# Altium schematic symbol library project.SchLib: 27 symbols
Pins are listed as number, name and electrical type; pins without a type are passive.

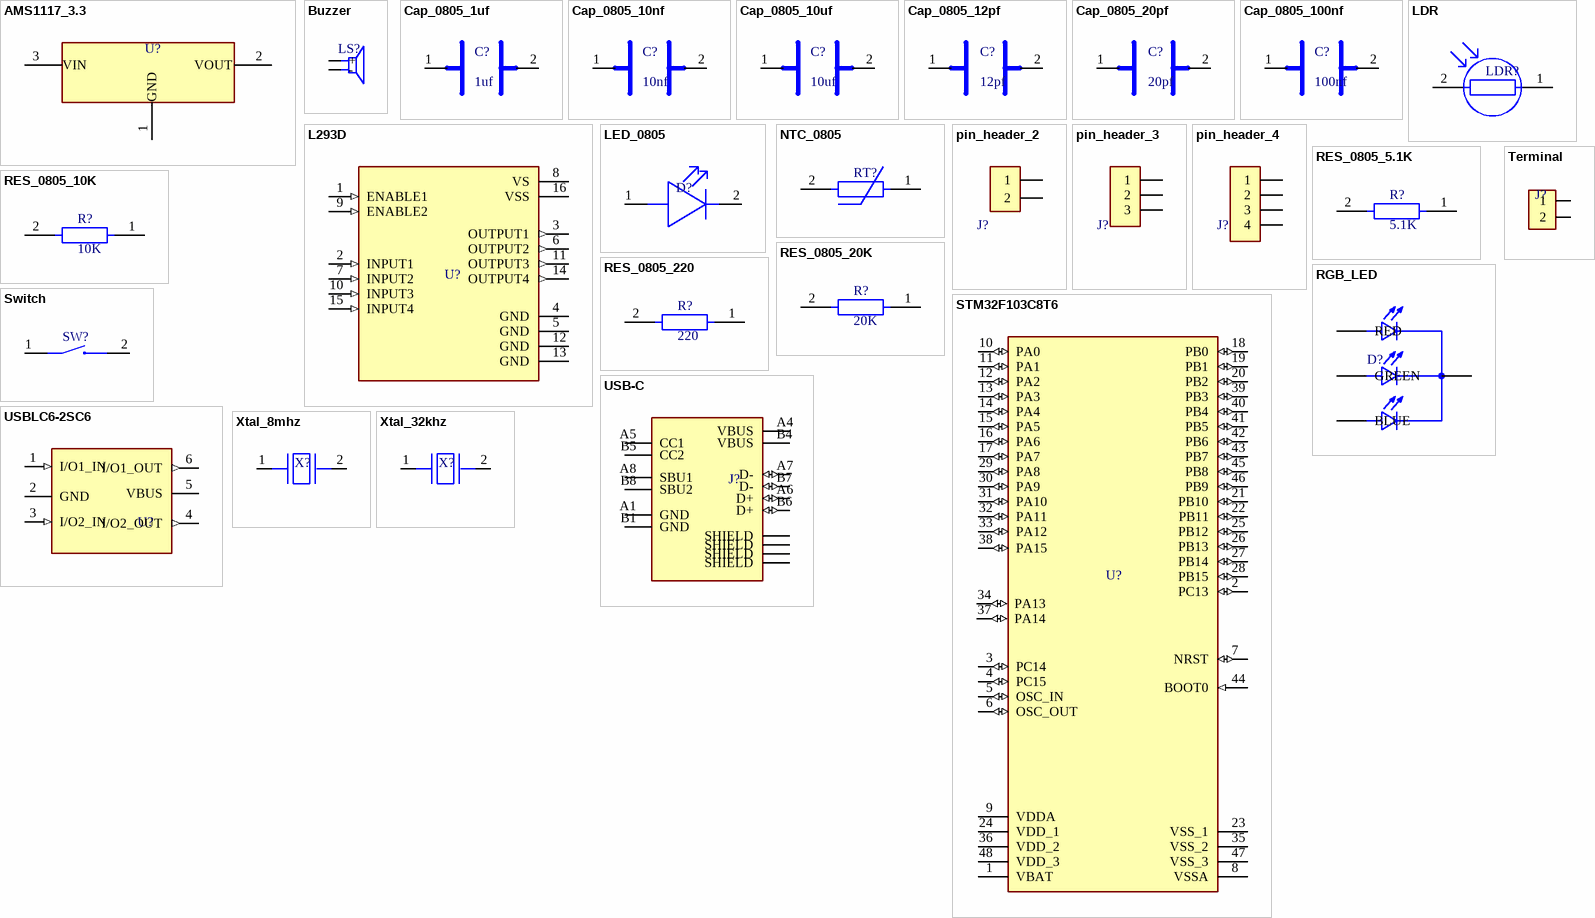
[diagram p0: symbols AMS1117_3.3 to Xtal_32khz]

## AMS1117_3.3
designator U?
1A Low Dropout (LDO) Regulator; MFR: Advanced Monolithic Systems; MFR PART#: AMS1117-3.3; Supplier: LCSC; Supplier PART#: C6186; ComponentLink1Description: Data Sheet; ComponentLink1URL: https://www.lcsc.com/datasheet/C6186.pdf?spm=wm.sxq.inf.ggs&lcsc_vid=RAIMXwZeRgRXUFAAT1RZBAEFEVIIVgdSQFlfUgUDFQcxVlNeQVRaVlRTQ1NcVTsOAxUeFF5JWBYZEEoBGA4JCwFIFA4DSA%3D%3D
footprint AMS1117 (SOT223, 4-Leads, Body 6.51x7.00mm (avg), Pitch 2.30mm, IPC Medium Density)
pins: 1 GND, 2 VOUT, 3 VIN

## Buzzer
designator LS?
Active Buzzer (Built-in Driving Circuit) 2.3kHz 5V Electromagnetic Alarms, Buzzers, and Sirens; MFR: CUI; MFR PART#: CMI-1295-0585T; Supplier: LCSC; Supplier PART#: C22359712; ComponentLink1Description: Data Sheet; ComponentLink1URL: https://www.lcsc.com/datasheet/C22359712.pdf?spm=wm.sxq.inf.ggs___wm.fly.bg.0.xh&lcsc_vid=FgVdAVJeFgAKAVAAT1ldBVYDR1ZcX11XR1lZVl1WEQMxVlNeT1dcVFdfRVdcVzsOAxUeFF5JWBYZEEoKFBINSQcJGk4NBhADEA4cHktTRk8GEwkK
footprint Buzzer
pins: 1 +, 2 -

## Cap_0805_1uf
designator C?, comment 1uf
CAP CER 1uF 50V X7R 0805; MFR: Samsung Electro-Mechanics; MFR PART#: CL21B105KBFNNNE; Supplier: LCSC; Supplier PART#: C28323; ComponentLink1Description: Data Sheet; ComponentLink1URL: https://www.lcsc.com/datasheet/C15850.pdf?spm=wm.sxq.inf.ggs___wm.fly.bg.0.xh&lcsc_vid=RAIMXwZeRgRXUFAAT1RZBAEFEVIIVgdSQFlfUgUDFQcxVlNeQVVYX1FWR1FeVDsOAxUeFF5JWBYZEEoKFBINSQcJGk4eFQsCAgIaSgADAwAHC0slT1VdUFJIHxUDCw%3D%3D
footprint Cap_0805
pins: 1, 2

## Cap_0805_10nf
designator C?, comment 10nf
CAP CER 10nF 50V X7R 0805; MFR: Samsung Electro-Mechanics; MFR PART#: CL21B103KBANNNC; Supplier: LCSC; Supplier PART#: C1710; ComponentLink1Description: Data Sheet; ComponentLink1URL: https://www.lcsc.com/datasheet/C1710.pdf?spm=wm.sxq.inf.ggs___wm.ssy.bg.3.xh&lcsc_vid=RAIMXwZeRgRXUFAAT1RZBAEFEVIIVgdSQFlfUgUDFQcxVlNeQFJfX1VQRFlaXjsOAxUeFF5JWBYZEEoKFBINSQcJGk4dAgUUFAk%3D
footprint Cap_0805
pins: 1, 2

## Cap_0805_10uf
designator C?, comment 10uf
CAP CER 10uF 25V X5R 0805; MFR: Samsung Electro-Mechanics; MFR PART#: CL21A106KAYNNNE; Supplier: LCSC; Supplier PART#: C15850; ComponentLink1Description: Data Sheet; ComponentLink1URL: https://www.lcsc.com/datasheet/C15850.pdf?spm=wm.sxq.inf.ggs___wm.fly.bg.0.xh&lcsc_vid=RAIMXwZeRgRXUFAAT1RZBAEFEVIIVgdSQFlfUgUDFQcxVlNeQVVYX1FWR1FeVDsOAxUeFF5JWBYZEEoKFBINSQcJGk4eFQsCAgIaSgADAwAHC0slT1VdUFJIHxUDCw%3D%3D
footprint Cap_0805
pins: 1, 2

## Cap_0805_12pf
designator C?, comment 12pf
CAP CER 12pF 50V C0G 0805; MFR: Samsung Electro-Mechanics; MFR PART#: CL21C120JBANNNC; Supplier: LCSC; Supplier PART#: C170110; ComponentLink1Description: Data Sheet; ComponentLink1URL: https://www.lcsc.com/datasheet/C170110.pdf?spm=wm.sxq.inf.ggs___wm.fly.bg.0.xh&lcsc_vid=RAIMXwZeRgRXUFAAT1RZBAEFEVIIVgdSQFlfUgUDFQcxVlNeQFJfX1BXQVdcVzsOAxUeFF5JWBYZEEoKFBINSQcJGk4dAgUUFAk%3D
footprint Cap_0805
pins: 1, 2

## Cap_0805_20pf
designator C?, comment 20pf
CAP CER 20pF 50V C0G 0805; MFR: Samsung Electro-Mechanics; MFR PART#: CL21C200JBANNNC; Supplier: LCSC; Supplier PART#: C1798; ComponentLink1Description: Data Sheet; ComponentLink1URL: https://www.lcsc.com/datasheet/C1798.pdf?spm=wm.sxq.inf.ggs___wm.ssy.bg.11.xh&lcsc_vid=RAIMXwZeRgRXUFAAT1RZBAEFEVIIVgdSQFlfUgUDFQcxVlNeQFJfX1ZeR1FXVjsOAxUeFF5JWBYZEEoKFBINSQcJGk4dAgUUFAk%3D
footprint Cap_0805
pins: 1, 2

## Cap_0805_100nf
designator C?, comment 100nf
CAP CER 100nF 50V X7R 0805; MFR: Samsung Electro-Mechanics; MFR PART#: CL21B104KBCNNNC; Supplier: LCSC; Supplier PART#: C1711; ComponentLink1Description: Data Sheet; ComponentLink1URL: https://www.lcsc.com/datasheet/C15850.pdf?spm=wm.sxq.inf.ggs___wm.fly.bg.0.xh&lcsc_vid=RAIMXwZeRgRXUFAAT1RZBAEFEVIIVgdSQFlfUgUDFQcxVlNeQVVYX1FWR1FeVDsOAxUeFF5JWBYZEEoKFBINSQcJGk4eFQsCAgIaSgADAwAHC0slT1VdUFJIHxUDCw%3D%3D
footprint Cap_0805
pins: 1, 2

## L293D
designator U?
PUSH-PULL FOUR CHANNEL DRIVER WITH DIODES; MFR: ST; MFR PART#: L293D; Supplier: LCSC; Supplier PART#: C12340; ComponentLink1Description: Data Sheet; ComponentLink1URL: https://www.lcsc.com/datasheet/C12340.pdf?spm=wm.sxq.inf.ggs___wm.ssy.bg.0.xh&lcsc_vid=FgVdAVJeFgAKAVAAT1ldBVYDR1ZcX11XR1lZVl1WEQMxVlNeT1dcUlJXR1hbUjsOAxUeFF5JWBYZEEoKFBINSQcJGk4dAgUUFAk%3D
footprint L293D
pins: 1 ENABLE1 (in), 2 INPUT1 (in), 3 OUTPUT1 (out), 4 GND (power), 5 GND (power), 6 OUTPUT2 (out), 7 INPUT2 (in), 8 VS (power), 9 ENABLE2 (in), 10 INPUT3 (in), 11 OUTPUT3 (out), 12 GND (power), 13 GND (power), 14 OUTPUT4 (out), 15 INPUT4 (in), 16 VSS (power)

## LDR
designator LDR?
Photoconductive Cell; MFR: JCHL; MFR PART#: GT36516; Supplier: LCSC; Supplier PART#: C2904880; ComponentLink1Description: Data Sheet; ComponentLink1URL: https://www.lcsc.com/datasheet/C2904880.pdf?spm=wm.sxq.inf.ggs___wm.fly.bg.2.xh&lcsc_vid=FgVdAVJeFgAKAVAAT1ldBVYDR1ZcX11XR1lZVl1WEQMxVlNeT1JZUVBXRVZXUTsOAxUeFF5JWBYZEEoKFBINSQcJGk4dAgUUFAk%3D
footprint LDR
pins: 1, 2

## LED_0805
designator D?
LED RED 0805 SMD; MFR: YONGYUTAI; MFR PART#: YLED0805R; Supplier: LCSC; Supplier PART#: C19171391; ComponentLink1Description: Data Sheet; ComponentLink1URL: https://www.lcsc.com/datasheet/C19171391.pdf?spm=wm.sxq.inf.ggs___wm.fly.bg.0.xh&lcsc_vid=RAIMXwZeRgRXUFAAT1RZBAEFEVIIVgdSQFlfUgUDFQcxVlNeQVRaUlRVRlZcXjsOAxUeFF5JWBYZEEoKFBINSQcJGk4NBhADEA4cHktXRlhXSQwSGg0%3D
footprint LED_0805
pins: 1, 2

## NTC_0805
designator RT?
THERMISTOR NTC 10kΩ 0805; MFR: VISHAY; MFR PART#: NTCS0805E3103JHT; Supplier: LCSC; Supplier PART#: C511025; ComponentLink1Description: Data Sheet; ComponentLink1URL: https://www.lcsc.com/datasheet/C511025.pdf?spm=wm.sxq.inf.ggs___wm.fly.bg.9.xh&lcsc_vid=FgVdAVJeFgAKAVAAT1ldBVYDR1ZcX11XR1lZVl1WEQMxVlNeT1JZVVFeRldaXzsOAxUeFF5JWBYZEEoKFBINSQcJGk4NBhADEA4cHktXRVZcSQwSGg0%3D
footprint NTC_0805
pins: 1, 2

## pin_header_2
designator J?
1kV 1 2.54mm Pin Header 3A 2.5mm Through Hole 6mm 3P -40℃~+105℃ 3mm Gold 1x2P Through Hole,P=2.54mm Headers, Male Pins; MFR: hanxia; MFR PART#: HX PH254-01-03-Z-L11.5 pcb pin header; Supplier: LCSC; Supplier PART#: C52016391; ComponentLink1Description: Data Sheet; ComponentLink1URL: https://www.lcsc.com/datasheet/C52016391.pdf?spm=wm.sxq.inf.ggs___wm.fly.bg.1.xh&lcsc_vid=RAIMXwZeRgRXUFAAT1RZBAEFEVIIVgdSQFlfUgUDFQcxVlNeQFJcUFdRQlZdUDsOAxUeFF5JWBYZEEoKFBINSQcJGk4NBhADEA4cHktXT1BADxALGw%3D%3D
footprint pin_header_2
pins: 1, 2

## pin_header_3
designator J?
1kV 1 2.54mm Pin Header 3A 2.5mm Through Hole 6mm 3P -40℃~+105℃ 3mm Gold 1x3P Through Hole,P=2.54mm Headers, Male Pins; MFR: hanxia; MFR PART#: HX PH254-01-03-Z-L11.5 pcb pin header; Supplier: LCSC; Supplier PART#: C52016391; ComponentLink1Description: Data Sheet; ComponentLink1URL: https://www.lcsc.com/datasheet/C52016391.pdf?spm=wm.sxq.inf.ggs___wm.fly.bg.1.xh&lcsc_vid=RAIMXwZeRgRXUFAAT1RZBAEFEVIIVgdSQFlfUgUDFQcxVlNeQFJcUFdRQlZdUDsOAxUeFF5JWBYZEEoKFBINSQcJGk4NBhADEA4cHktXT1BADxALGw%3D%3D
footprint pin_header_3
pins: 1, 2, 3

## pin_header_4
designator J?
1kV 1 2.54mm Pin Header 3A 2.5mm Through Hole 6mm -40℃~+105℃ 3mm Gold 4P 1x4P Through Hole,P=2.54mm Headers, Male Pins; MFR: hanxia; MFR PART#: HX PH254-01-04-Z-L11.5 straight pin header; Supplier: LCSC; Supplier PART#: C52016392; ComponentLink1Description: Data Sheet; ComponentLink1URL: https://www.lcsc.com/datasheet/C52016392.pdf?spm=wm.sxq.inf.ggs___wm.fly.bg.0.xh&lcsc_vid=RAIMXwZeRgRXUFAAT1RZBAEFEVIIVgdSQFlfUgUDFQcxVlNeQFJfXlVTRVBWXzsOAxUeFF5JWBYZEEoKFBINSQcJGk4NBhADEA4cHktRTlNADxALGw%3D%3D
footprint pin_header_4
pins: 1, 2, 3, 4

## RES_0805_5.1K
designator R?, comment 5.1K
RES 5.1kΩ ±1% 125mW 0805; MFR: YAGEO; MFR PART#: RC0805FR-075K1L; Supplier: LCSC; Supplier PART#: C84375; ComponentLink1Description: Data Sheet; ComponentLink1URL: https://www.lcsc.com/datasheet/C84375.pdf?spm=wm.sxq.inf.ggs___wm.fly.bg.2.xh&lcsc_vid=RAIMXwZeRgRXUFAAT1RZBAEFEVIIVgdSQFlfUgUDFQcxVlNeQFJfX1xTQ1RYXjsOAxUeFF5JWBYZEEoKFBINSQcJGk4dAgUUFAk%3D
footprint RES_0805
pins: 1, 2

## RES_0805_10K
designator R?, comment 10K
RES 10kΩ ±0.1% 125mW 0805; MFR: YAGEO; MFR PART#: RT0805BRD0710KL; Supplier: LCSC; Supplier PART#: C110775; ComponentLink1Description: Data Sheet; ComponentLink1URL: https://www.lcsc.com/datasheet/C95781.pdf?spm=wm.sxq.inf.ggs___wm.fly.bg.2.xh&lcsc_vid=RAIMXwZeRgRXUFAAT1RZBAEFEVIIVgdSQFlfUgUDFQcxVlNeQVRaVlNURlFeXzsOAxUeFF5JWBYZEEoKFBINSQcJGk4eFQsCAgIaSgADAwAHC0sFHwgeShYDBAgdEwsUWhIbFQIHFARDCgsTGRUxEQtLR1leUklTWlAFOCdUT1lXUlZVWQkaCgg%3D
footprint RES_0805
pins: 1, 2

## RES_0805_20K
designator R?, comment 20K
RES 20kΩ ±1% 125mW 0805; MFR: YAGEO; MFR PART#: RC0805FR-0720KL; Supplier: LCSC; Supplier PART#: C114566; ComponentLink1Description: Data Sheet; ComponentLink1URL: https://www.lcsc.com/datasheet/C114566.pdf?spm=wm.sxq.inf.ggs___wm.fly.bg.2.xh&lcsc_vid=FgVdAVJeFgAKAVAAT1ldBVYDR1ZcX11XR1lZVl1WEQMxVlNeT1dXUlJURFJfUjsOAxUeFF5JWBYZEEoKFBINSQcJGk4dAgUUFAk%3D
footprint RES_0805
pins: 1, 2

## RES_0805_220
designator R?, comment 220
RES 220Ω ±0.1% 125mW 0805; MFR: YAGEO; MFR PART#: RT0805BRD07220RL; Supplier: LCSC; Supplier PART#: C865304; ComponentLink1Description: Data Sheet; ComponentLink1URL: https://www.lcsc.com/datasheet/C865304.pdf?spm=wm.sxq.inf.ggs___wm.fly.bg.8.xh&lcsc_vid=RAIMXwZeRgRXUFAAT1RZBAEFEVIIVgdSQFlfUgUDFQcxVlNeQFJfUlFQQ1NaVzsOAxUeFF5JWBYZEEoKFBINSQcJGk4NBhADEA4cHktfQ1hADxALGw%3D%3D
footprint RES_0805
pins: 1, 2

## RGB_LED
designator D?
TriColor ChipLED; MFR: Broadcom; MFR PART#: HSMF-C118; Supplier: LCSC; Supplier PART#: C6795867; ComponentLink1Description: Data Sheet; ComponentLink1URL: https://www.lcsc.com/datasheet/C6795867.pdf?spm=wm.sxq.inf.ggs___wm.fly.bg.1.xh&lcsc_vid=FgVdAVJeFgAKAVAAT1ldBVYDR1ZcX11XR1lZVl1WEQMxVlNeT1dcXlZURlZaVjsOAxUeFF5JWBYZEEoKFBINSQcJGk4NBhADEA4cHktSRlFADxALGw%3D%3D
footprint RGB_LED
pins: 1 GND, 2 RED, 3 GREEN, 4 BLUE

## STM32F103C8T6
designator U?
Medium-density performance line Arm-based 32-bit MCU with 64 or 128 KB Flash, USB, CAN, 7 timers, 2 ADCs, 9 com. interfaces; MFR: ST; MFR PART#: STM32F103C8T6; Supplier: LCSC; Supplier PART#: C8734; ComponentLink1Description: Data Sheet; ComponentLink1URL: https://www.lcsc.com/datasheet/C8734.pdf?spm=wm.sxq.inf.ggs___wm.ssy.em.0.tz&lcsc_vid=RAIMXwZeRgRXUFAAT1RZBAEFEVIIVgdSQFlfUgUDFQcxVlNeQFJcU1RRRFJcVTsOAxUeFF5JWBYZEEoKFBINSQcJGk4NBhADEA4cHktTQlhADxALGw%3D%3D
footprint STM32F103C8T6
pins: 1 VBAT (power), 2 PC13 (io), 3 PC14 (io), 4 PC15 (io), 5 OSC_IN (io), 6 OSC_OUT (io), 7 NRST (io), 8 VSSA (power), 9 VDDA (power), 10 PA0 (io), 11 PA1 (io), 12 PA2 (io), 13 PA3 (io), 14 PA4 (io), 15 PA5 (io), 16 PA6 (io), 17 PA7 (io), 18 PB0 (io), 19 PB1 (io), 20 PB2 (io), 21 PB10 (io), 22 PB11 (io), 23 VSS_1 (power), 24 VDD_1 (power), 25 PB12 (io), 26 PB13 (io), 27 PB14 (io), 28 PB15 (io), 29 PA8 (io), 30 PA9 (io), 31 PA10 (io), 32 PA11 (io), 33 PA12 (io), 34 PA13 (io), 35 VSS_2 (power), 36 VDD_2 (power), 37 PA14 (io), 38 PA15 (io), 39 PB3 (io), 40 PB4 (io), 41 PB5 (io), 42 PB6 (io), 43 PB7 (io), 44 BOOT0 (in), 45 PB8 (io), 46 PB9 (io), 47 VSS_3 (power), 48 VDD_3 (power)

## Switch
designator SW?
SWITCH TACTILE SPST SMD; MFR: SHOU HAN; MFR PART#: TS342A2P-WZ; Supplier: LCSC; Supplier PART#: C557591; ComponentLink1Description: Data Sheet; ComponentLink1URL: https://www.lcsc.com/datasheet/C557591.pdf?spm=wm.sxq.inf.ggs___wm.fly.bg.15.xh&lcsc_vid=RAIMXwZeRgRXUFAAT1RZBAEFEVIIVgdSQFlfUgUDFQcxVlNeQFJfXlFWRFdeVTsOAxUeFF5JWBYZEEoKFBINSQcJGk4NBhADEA4cHktQQlFADxALGw%3D%3D
footprint switch
pins: 1, 2

## Terminal
designator J?
TERM BLK 2POS 5.08mm TH; MFR: KANGNEX; MFR PART#: WJ500V-5.08-2P; Supplier: LCSC; Supplier PART#: C8465; ComponentLink1Description: Data Sheet; ComponentLink1URL: https://www.lcsc.com/datasheet/C8465.pdf?spm=wm.sxq.inf.ggs___wm.fly.bg.1.xh&lcsc_vid=RAIMXwZeRgRXUFAAT1RZBAEFEVIIVgdSQFlfUgUDFQcxVlNeQVRaUFdVR1VbVTsOAxUeFF5JWBYZEEoKFBINSQcJGk4dAgUUFAk%3D
footprint Terminal
pins: 1, 2

## USB-C
designator J?
CONN RCPT Type-C 16POS SMD; MFR: Korean Hroparts Elec; MFR PART#: TYPE-C-31-M-12; Supplier: LCSC; Supplier PART#: C165948; ComponentLink1Description: Data Sheet; ComponentLink1URL: https://www.lcsc.com/datasheet/C165948.pdf?spm=wm.sxq.inf.ggs___wm.fly.bg.1.xh&lcsc_vid=RAIMXwZeRgRXUFAAT1RZBAEFEVIIVgdSQFlfUgUDFQcxVlNeQFJeVVJTRFBWUjsOAxUeFF5JWBYZEEoKFBINSQcJGk4%3D
footprint USB_C
pins: A1 GND (power), A4 VBUS, A5 CC1, A6 D+ (io), A7 D- (io), A8 SBU1, B1 GND (power), B4 VBUS, B5 CC2, B6 D+ (io), B7 D- (io), B8 SBU2, S1 SHIELD, S2 SHIELD, S3 SHIELD, S4 SHIELD

## USBLC6-2SC6
designator U?
ESD DIODE 5.25VWM 17VC SOT-23-6L; MFR: ST; MFR PART#: USBLC6-2SC6; Supplier: LCSC; Supplier PART#: C7519; ComponentLink1Description: Data Sheet; ComponentLink1URL: https://www.lcsc.com/datasheet/C7519.pdf?spm=wm.sxq.inf.ggs___wm.fly.bg.0.xh&lcsc_vid=RAIMXwZeRgRXUFAAT1RZBAEFEVIIVgdSQFlfUgUDFQcxVlNeQFJfUVNWT1lXUDsOAxUeFF5JWBYZEEoKFBINSQcJGk4NBhADEA4cHktXRlhXSQwSGg0%3D
footprint USBLC6-2SC6
pins: 1 I/O1_IN (in), 2 GND, 3 I/O2_IN (in), 4 I/O2_OUT (out), 5 VBUS, 6 I/O1_OUT (out)

## Xtal_8mhz
designator X?
CRYSTAL 8MHz 20pF SMD; MFR: YXC Crystal Oscillators; MFR PART#: X49SM8MSD2SC; Supplier: LCSC; Supplier PART#: C12674; ComponentLink1Description: Data Sheet; ComponentLink1URL: https://www.lcsc.com/datasheet/C12674.pdf?spm=wm.sxq.inf.ggs___wm.fly.bg.17.xh&lcsc_vid=RAIMXwZeRgRXUFAAT1RZBAEFEVIIVgdSQFlfUgUDFQcxVlNeQFJdUVVTQFJfUTsOAxUeFF5JWBYZEEoKFBINSQcJGk4eFQsCAgIaSgADAwAHC0slQlNYUlNRRE8GEwkK
footprint Xtal_8mhz
pins: 1, 2

## Xtal_32khz
designator X?
CRYSTAL 32.768kHz 12.5pF SMD; MFR: NDK; MFR PART#: NX3215SA-32.768K-STD-MUA-8; Supplier: LCSC; Supplier PART#: C156245; ComponentLink1Description: Data Sheet; ComponentLink1URL: https://www.lcsc.com/datasheet/C156245.pdf?spm=wm.sxq.inf.ggs&lcsc_vid=RAIMXwZeRgRXUFAAT1RZBAEFEVIIVgdSQFlfUgUDFQcxVlNeQFJcUFNXQ1NfXjsOAxUeFF5JWBYZEEoKFBINSQcJGk4dAgUUFAk%3D
footprint Xtal_32khz
pins: 1, 2